# EAGLE library part MM74HC4052M (library Fairchild_By_element14_Batch_1)
Multiplexer
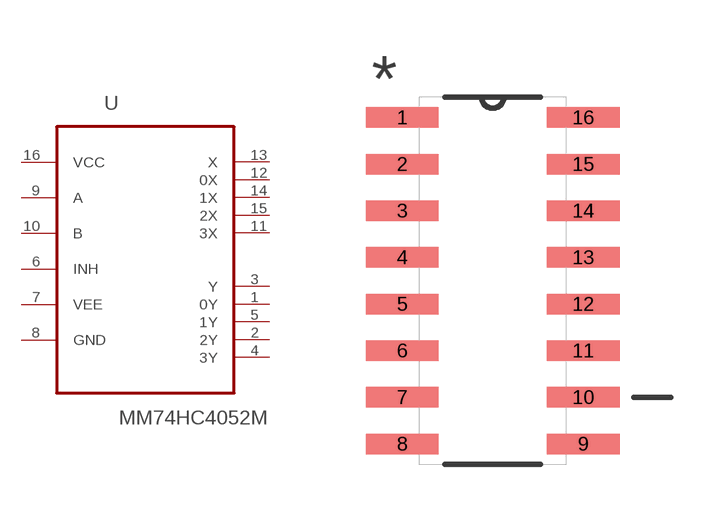
[diagram p286: symbol with the pads of SOIC127P600X175-16N; footprint SOIC127P600X175-16N]

Designator prefix U

## MM74HC4052M (MPN: MM74HC4052M; OC_FARNELL: 1013866; OC_NEWARK: -; PACKAGE: SOIC-16; SUPPLIER: Fairchild Semiconductor)  [SOIC127P600X175-16N]
1  0Y
2  2Y
3  Y
4  3Y
5  1Y
6  INH  in
7  VEE  pwr
8  GND  pas
9  A  in
10  B  in
11  3X
12  0X
13  X
14  1X
15  2X
16  VCC  pwr

## Footprint SOIC127P600X175-16N (pad centres in mm)
smd 1.981 x 0.559: 1 -2.464,4.445; 2 -2.464,3.175; 3 -2.464,1.905; 4 -2.464,0.635; 5 -2.464,-0.635; 6 -2.464,-1.905; 7 -2.464,-3.175; 8 -2.464,-4.445; 9 2.464,-4.445; 10 2.464,-3.175; 11 2.464,-1.905; 12 2.464,-0.635; 13 2.464,0.635; 14 2.464,1.905; 15 2.464,3.175; 16 2.464,4.445